# EAGLE library part AS-ITM-00056 (library tinycircuits)
Bluegiga BLE Bluetooth Module
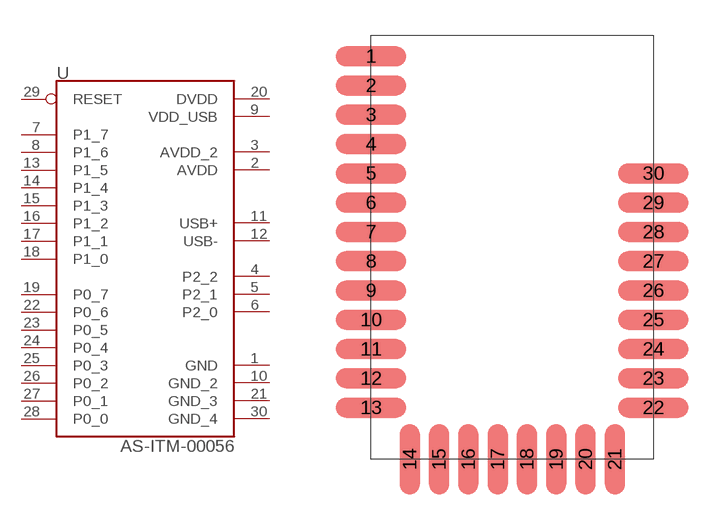
[diagram p17: symbol with the pads of BLUEGIGA_BLE_MODULE; footprint BLUEGIGA_BLE_MODULE]

Designator prefix U

## AS-ITM-00056 (PARTNO: AS-ITM-00056; VALUE: BLE112-A)  [BLUEGIGA_BLE_MODULE]
1  GND
2  AVDD
3  AVDD_2
4  P2_2
5  P2_1
6  P2_0
7  P1_7
8  P1_6
9  VDD_USB
10  GND_2
11  USB+
12  USB-
13  P1_5
14  P1_4
15  P1_3
16  P1_2
17  P1_1
18  P1_0
19  P0_7
20  DVDD
21  GND_3
22  P0_6
23  P0_5
24  P0_4
25  P0_3
26  P0_2
27  P0_1
28  P0_0
29  RESET
30  GND_4

## Footprint BLUEGIGA_BLE_MODULE (pad centres in mm)
smd 3 x 0.85: 1 -6,8.2; 2 -6,6.95; 3 -6,5.7; 4 -6,4.45; 5 -6,3.2; 6 -6,1.95; 7 -6,0.7; 8 -6,-0.55; 9 -6,-1.8; 10 -6,-3.05; 11 -6,-4.3; 12 -6,-5.55; 13 -6,-6.8; 22 6.05,-6.8; 23 6.05,-5.55; 24 6.05,-4.3; 25 6.05,-3.05; 26 6.05,-1.8; 27 6.05,-0.55; 28 6.05,0.7; 29 6.05,1.95; 30 6.05,3.2
smd 0.85 x 3: 14 -4.35,-9; 15 -3.1,-9; 16 -1.85,-9; 17 -0.6,-9; 18 0.65,-9; 19 1.9,-9; 20 3.15,-9; 21 4.4,-9